# Altium footprint library LM1084.PcbLib: 3 footprints
Each footprint in its own frame and in the unit in brackets; x right, y up, seen from the top. Pads: shape width x height; smd on the part's side, far side on the other; paste and mask are expansions set on the pad; w line width, h text height; cw(c..) or ccw(c..) is an arc to the next point about the centre after c.
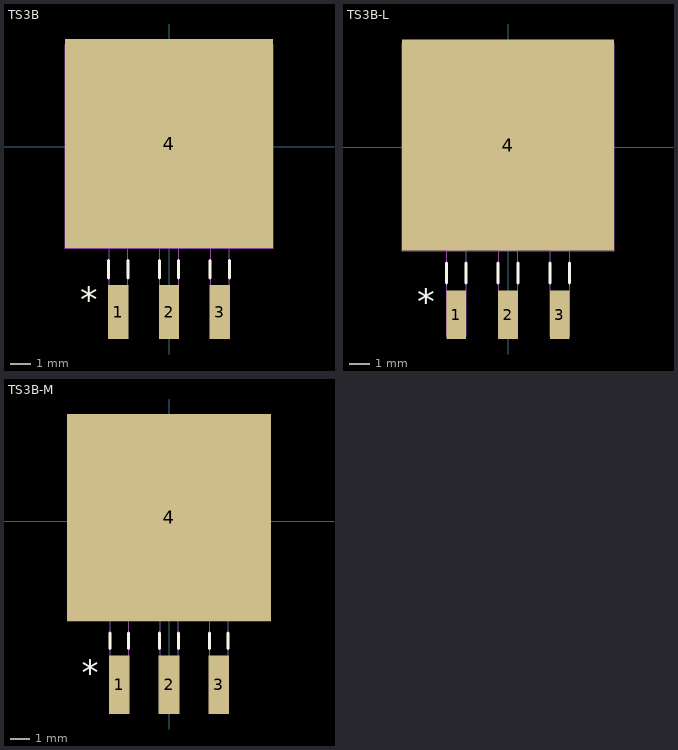
[diagram p0: the footprints below, top view; thin cyan lines are the x and y axes]

## TS3B [mil]
pads (4):
  rect 40x106 smd: 1(-100,-326) 2(0,-326) 3(100,-326)
  rect 410x412 smd: 4(0,6)
Top Overlay:
  lines w6: -119,-259 -119,-224 ; -81,-259 -81,-224 ; -19,-259 -19,-224 ; 19,-259 19,-224 ; 81,-259 81,-224 ; 119,-259 119,-224
  text "*" at -175,-326 h50
  text "PN" at 0,0 h50
  text "DEV" at 0,0 h50
  text "VAL" at 0,0 h50
  text "TOL" at 0,0 h50
Mechanical 1:
  lines w0: -205,-200 205,-200 205,200 -205,200 -205,-200 ; -119,-365 -119,-200 -81,-200 -81,-365 -119,-365 ; -19,-365 -19,-200 19,-200 19,-365 -19,-365 ; 81,-365 81,-200 119,-200 119,-365 81,-365
  text "*" at -175,-326 h50
  text "RefDes2" at 0,0 h50

## TS3B-L [mil]
pads (4):
  rect 38x94 smd: 1(-100,-324) 2(0,-324) 3(100,-324)
  rect 410x408 smd: 4(0,4)
Top Overlay:
  lines w6: -119,-263 -119,-224 ; -81,-263 -81,-224 ; -19,-263 -19,-224 ; 19,-263 19,-224 ; 81,-263 81,-224 ; 119,-263 119,-224
  text "*" at -175,-324 h50
  text "PN" at 0,0 h50
  text "DEV" at 0,0 h50
  text "VAL" at 0,0 h50
  text "TOL" at 0,0 h50
Mechanical 1:
  lines w0: -205,-200 205,-200 205,200 -205,200 -205,-200 ; -119,-365 -119,-200 -81,-200 -81,-365 -119,-365 ; -19,-365 -19,-200 19,-200 19,-365 -19,-365 ; 81,-365 81,-200 119,-200 119,-365 81,-365
  text "*" at -175,-324 h50
  text "RefDes2" at 0,0 h50

## TS3B-M [mil]
pads (4):
  rect 42x118 smd: 1(-100,-328) 2(0,-328) 3(100,-328)
  rect 410x416 smd: 4(0,8)
Top Overlay:
  lines w6: -119,-255 -119,-224 ; -81,-255 -81,-224 ; -19,-255 -19,-224 ; 19,-255 19,-224 ; 81,-255 81,-224 ; 119,-255 119,-224
  text "*" at -175,-328 h50
  text "PN" at 0,0 h50
  text "DEV" at 0,0 h50
  text "VAL" at 0,0 h50
  text "TOL" at 0,0 h50
Mechanical 1:
  lines w0: -205,-200 205,-200 205,200 -205,200 -205,-200 ; -119,-365 -119,-200 -81,-200 -81,-365 -119,-365 ; -19,-365 -19,-200 19,-200 19,-365 -19,-365 ; 81,-365 81,-200 119,-200 119,-365 81,-365
  text "*" at -175,-328 h50
  text "RefDes2" at 0,0 h50